# Altium footprint library TZA07A.PcbLib: 1 footprints
Each footprint in its own frame and in the unit in brackets; x right, y up, seen from the top. Pads: shape width x height; smd on the part's side, far side on the other; paste and mask are expansions set on the pad; w line width, h text height; cw(c..) or ccw(c..) is an arc to the next point about the centre after c.
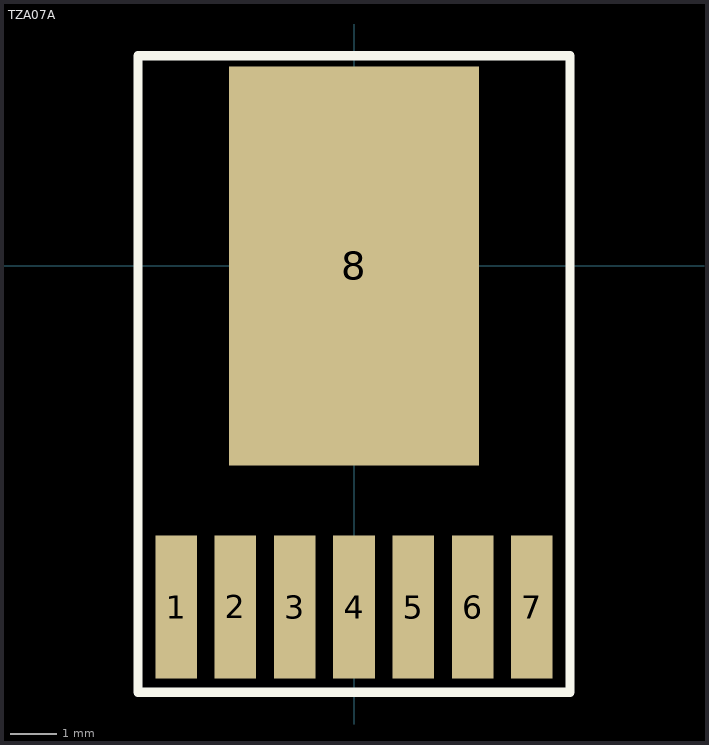
[diagram p0: the footprint, top view; thin cyan lines are the x and y axes]

## TZA07A [mm]
pads (8):
  rect 0.89x3.06 smd: 1(-3.81,-7.305) 2(-2.54,-7.3) 3(-1.27,-7.305) 4(0,-7.305) 5(1.27,-7.305) 6(2.54,-7.305) 7(3.81,-7.305)
  rect 5.35x8.54 smd: 8(0,0)
Top Overlay:
  lines w0.2: -4.625,-9.125 4.625,-9.125 4.625,4.5 -4.625,4.5 -4.625,-9.125
3D body: height 4.67, standoff 0.1, extent -5.08,-8.85 5.08,4.925